# Altium footprint library MEGA.PcbLib: 237 footprints (part 3 of 15)
Each footprint in its own frame and in the unit in brackets; x right, y up, seen from the top. Pads: shape width x height; smd on the part's side, far side on the other; paste and mask are expansions set on the pad; w line width, h text height; cw(c..) or ccw(c..) is an arc to the next point about the centre after c.
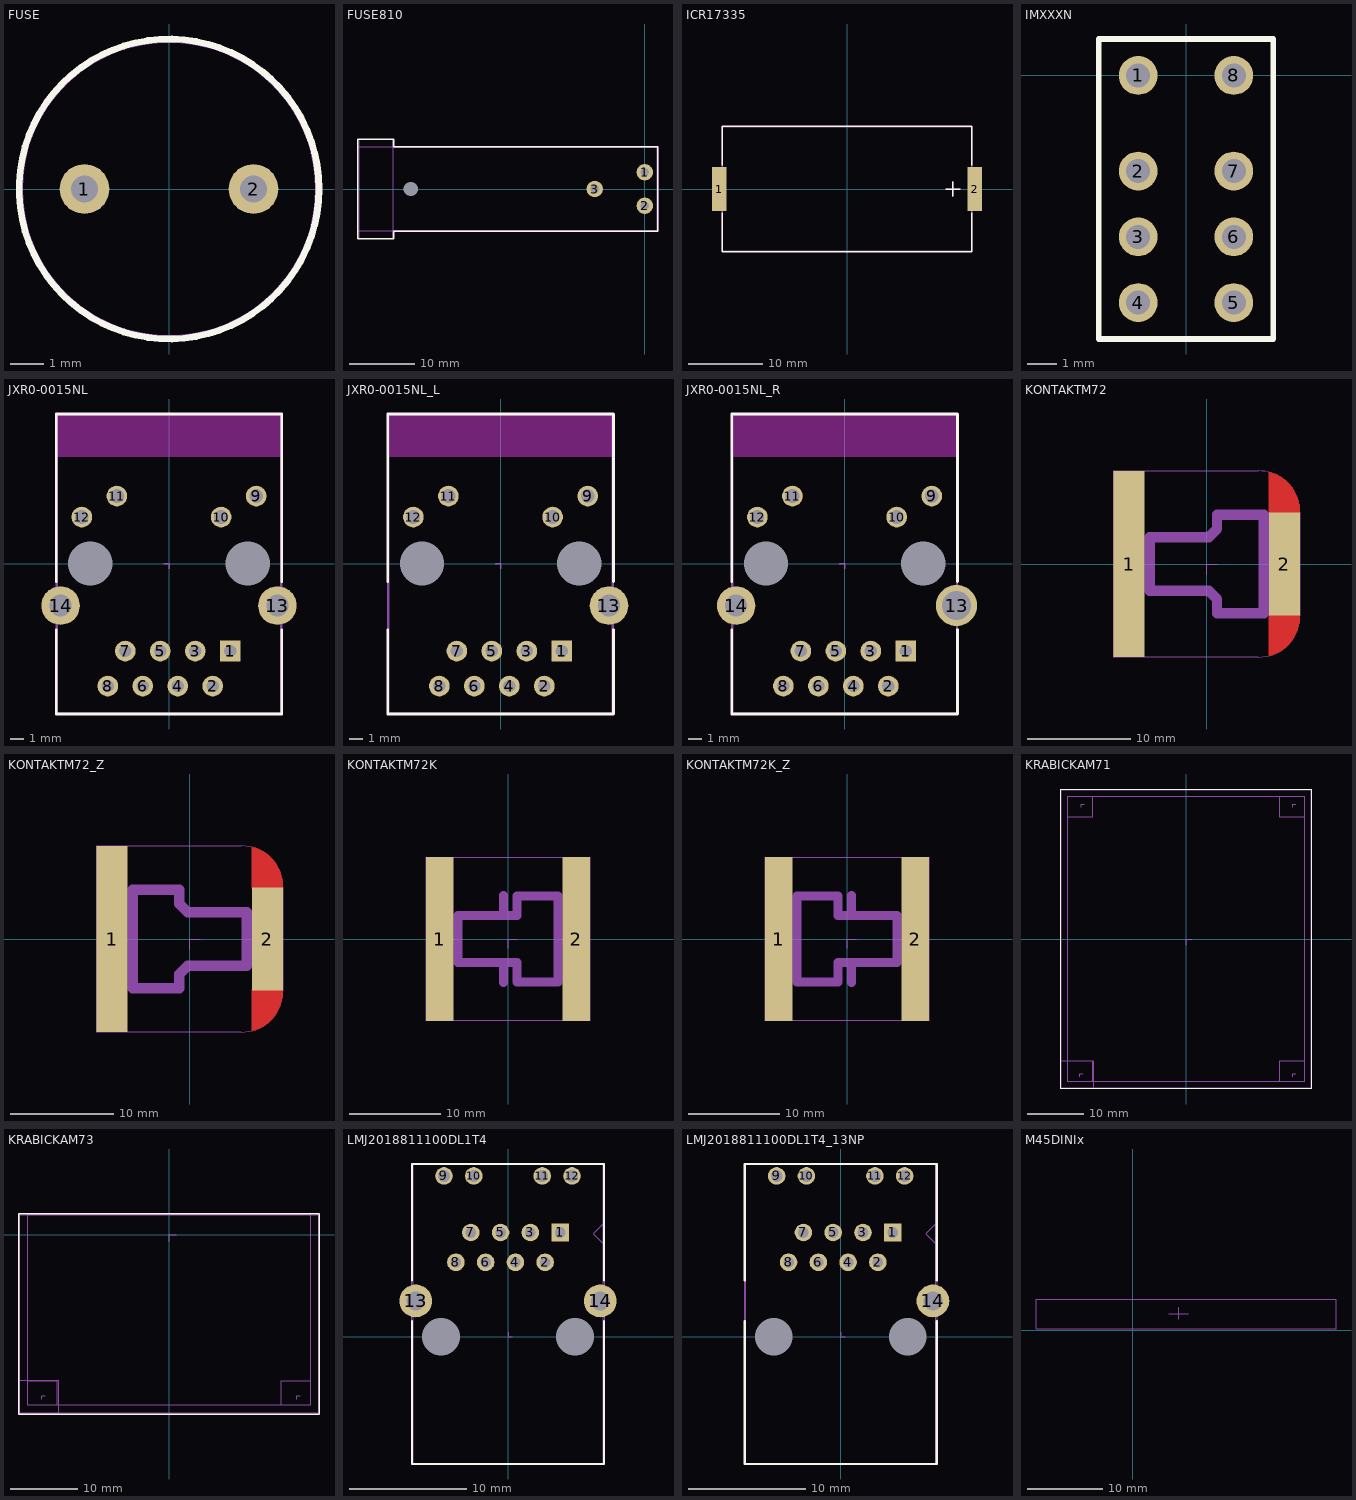
[diagram p2: the footprints below, top view; thin cyan lines are the x and y axes]

## FUSE [mm]
pads (2):
  round 1.5 hole 0.8 mask+0.1: 1(-2.54,0) 2(2.54,0)
Top Overlay:
  circle w0.2: c0,0 r4.508
Mechanical 15:
  circle w0.1: c0,0 r4.445
Multi-Layer:
  text "Value" at -1.235,-0.869 h0.75
Mechanical 20:
  circle w0.1: c0,0 r4.508

## FUSE810 [mm]
pads (4):
  round 2.5 hole 1.3 mask+0.05: 1(0,2.54) 2(0,-2.54) 3(-7.62,0)
  round 0 hole 2.2: HL1(-35.56,0)
Top Overlay:
  lines w0.2: -43.6,-7.6 -38.2,-7.6 -38.2,-6.4 2,-6.4 2,6.4 -38.2,6.4 -38.2,7.6 -43.6,7.6 -43.6,-7.6
Mechanical 15:
  lines w0.01: -38.3,-6.3 -38.3,6.3 ; -38.3,-6.3 1.9,-6.3 1.9,6.3 -38.3,6.3 ; -38.3,-6.3 -38.3,-7.5 -43.5,-7.5 -43.5,7.5 -38.3,7.5 -38.3,6.3
Multi-Layer:
  text "Value" at -21.735,-2.28 h0.75
Mechanical 20:
  lines w0.1: -43.6,-6.4 2,-6.4 2,6.4 -43.6,6.4 -43.6,-6.4

## ICR17335 [mm]
pads (2):
  rect 2x6 smd mask+0.05: 1(-17.272,0) 2(17.272,0)
Top Overlay:
  lines w0.2: -16.828,-3.238 -16.828,-8.509 16.828,-8.509 16.828,-3.238 ; -16.828,3.238 -16.828,8.509 16.828,8.509 16.828,3.238 ; 13.318,0 15.318,0 ; 14.318,-1 14.318,1
Mechanical 15:
  lines w0.1: 13.318,0 15.318,0 ; 14.318,-1 14.318,1 ; -16.764,-8.445 16.764,-8.445 16.764,8.445 -16.764,8.445 -16.764,-8.445
Multi-Layer:
  text "Value" at -1.235,-1.822 h0.75
Mechanical 20:
  lines w0.1: -16.828,-8.509 16.828,-8.509 16.828,8.509 -16.828,8.509 -16.828,-8.509

## IMXXXN [mm]
pads (8):
  round 1.3 hole 0.8 mask+0.1: 1(-1.6,0) 2(-1.6,-3.2) 3(-1.6,-5.4) 4(-1.6,-7.6) 5(1.6,-7.6) 6(1.6,-5.4) 7(1.6,-3.2) 8(1.6,0)
Top Overlay:
  lines w0.2: -2.92,-8.82 2.92,-8.82 2.92,1.22 -2.92,1.22 -2.92,-8.82
Mechanical 15:
  lines w0.1: -2.9,-8.8 2.9,-8.8 2.9,1.2 -2.9,1.2 -2.9,-8.8

## JXR0-0015NL [mm]
height 17.27
pads (16):
  rect 1.5x1.5 hole 0.9 mask+0.1: 1(4.445,-6.35)
  round 1.5 hole 0.9 mask+0.1: 2(3.175,-8.89) 3(1.905,-6.35) 4(0.635,-8.89) 5(-0.635,-6.35) 6(-1.905,-8.89) 7(-3.175,-6.35) 8(-4.445,-8.89)
  round 1.5 hole 1 mask+0.1: 9(6.331,4.902) 10(3.785,3.378) 11(-3.785,4.902) 12(-6.331,3.378)
  round 2.8 hole 1.6 mask+0.1: 13(7.874,-3.048) 14(-7.874,-3.048)
  round 0 hole 3.2 unplated: HL1(5.715,0) HL2(-5.715,0)
L1-Top Layer keep-out:
  region: 8.128,10.795 -8.128,10.795 -8.128,7.747 8.128,7.747
Top Overlay:
  lines w0.2: -8.191,-4.805 -8.191,-10.922 8.191,-10.922 8.191,-4.805 ; -8.191,-1.305 -8.191,10.858 8.191,10.858 8.191,-1.305
Mechanical 15:
  lines w0.1: -8.128,-10.858 -8.128,10.795 8.128,10.795 8.128,-10.858 -8.128,-10.858
Mechanical 19:
  lines w0.1: -0.381,0 0,0 0,-0.381
Mechanical 20:
  lines w0.1: -8.191,-10.922 8.191,-10.922 8.191,10.858 -8.191,10.858 -8.191,-10.922

## JXR0-0015NL_L [mm]
height 17.27
pads (15):
  rect 1.5x1.5 hole 0.9 mask+0.1: 1(4.445,-6.35)
  round 1.5 hole 0.9 mask+0.1: 2(3.175,-8.89) 3(1.905,-6.35) 4(0.635,-8.89) 5(-0.635,-6.35) 6(-1.905,-8.89) 7(-3.175,-6.35) 8(-4.445,-8.89)
  round 1.5 hole 1 mask+0.1: 9(6.331,4.902) 10(3.785,3.378) 11(-3.785,4.902) 12(-6.331,3.378)
  round 2.8 hole 1.6 mask+0.1: 13(7.874,-3.048)
  round 0 hole 3.2 unplated: HL1(5.715,0) HL2(-5.715,0)
L1-Top Layer keep-out:
  region: 8.128,10.795 -8.128,10.795 -8.128,7.747 8.128,7.747
Top Overlay:
  lines w0.2: -8.191,-4.805 -8.191,-10.922 8.191,-10.922 8.191,-4.805 ; -8.191,-1.305 -8.191,10.858 8.191,10.858 8.191,-1.305
Mechanical 15:
  lines w0.1: -8.128,-10.858 -8.128,10.795 8.128,10.795 8.128,-10.858 -8.128,-10.858
Mechanical 19:
  lines w0.1: -0.381,0 0,0 0,-0.381
Mechanical 20:
  lines w0.1: -8.191,-10.922 8.191,-10.922 8.191,10.858 -8.191,10.858 -8.191,-10.922

## JXR0-0015NL_R [mm]
height 17.27
pads (16):
  rect 1.5x1.5 hole 0.9 mask+0.1: 1(4.445,-6.35)
  round 1.5 hole 0.9 mask+0.1: 2(3.175,-8.89) 3(1.905,-6.35) 4(0.635,-8.89) 5(-0.635,-6.35) 6(-1.905,-8.89) 7(-3.175,-6.35) 8(-4.445,-8.89)
  round 1.5 hole 1 mask+0.1: 9(6.331,4.902) 10(3.785,3.378) 11(-3.785,4.902) 12(-6.331,3.378)
  round 3 hole 2.1 mask+0.05: 13(8.128,-3.048)
  round 2.8 hole 1.6 mask+0.1: 14(-7.874,-3.048)
  round 0 hole 3.2 unplated: HL1(5.715,0) HL2(-5.715,0)
L1-Top Layer keep-out:
  region: 8.128,10.795 -8.128,10.795 -8.128,7.747 8.128,7.747
Top Overlay:
  lines w0.2: -8.191,-4.805 -8.191,-10.922 8.191,-10.922 8.191,-4.805 ; -8.191,-1.305 -8.191,10.858 8.191,10.858 8.191,-1.305
Mechanical 15:
  lines w0.1: -8.128,-10.858 -8.128,10.795 8.128,10.795 8.128,-10.858 -8.128,-10.858
Mechanical 19:
  lines w0.1: -0.381,0 0,0 0,-0.381
Mechanical 20:
  lines w0.1: -8.191,-10.922 8.191,-10.922 8.191,10.858 -8.191,10.858 -8.191,-10.922

## KONTAKTM72 [mm]
pads (2):
  rect 3x18 smd mask+0.05: 1(-7.5,0)
  rect 3x10 smd mask+0.05: 2(7.5,0)
L1-Top Layer:
  region: 9,4.9 9,4.998 9.004,5.139 8.999,5.341 8.983,5.542 8.956,5.743 8.92,5.941 8.872,6.138 8.815,6.331 8.748,6.522 8.67,6.708 8.583,6.891 8.487,7.068 8.381,7.24 8.267,7.407 8.144,7.567 8.013,7.721 7.874,7.867 7.727,8.006 7.574,8.137 7.414,8.26 7.247,8.375 7.075,8.48 6.897,8.577 6.715,8.664 6.529,8.741 6.338,8.808 6.144,8.866 6,8.9 6,4.9
  region: 9,-4.9 9,-4.998 9.004,-5.139 8.999,-5.341 8.983,-5.542 8.956,-5.743 8.92,-5.941 8.872,-6.138 8.815,-6.331 8.748,-6.522 8.67,-6.708 8.583,-6.891 8.487,-7.068 8.381,-7.24 8.267,-7.407 8.144,-7.567 8.013,-7.721 7.874,-7.867 7.727,-8.006 7.574,-8.137 7.414,-8.26 7.247,-8.375 7.075,-8.48 6.897,-8.577 6.715,-8.664 6.529,-8.741 6.338,-8.808 6.144,-8.866 6,-8.9 6,-4.9
Top Solder:
  region: 5.95,-4.95 9.05,-4.95 9.051,-5.048 9.051,-5.055 9.046,-5.264 9.029,-5.473 9.002,-5.68 8.964,-5.886 8.915,-6.09 8.856,-6.29 8.786,-6.488 8.706,-6.681 8.616,-6.87 8.516,-7.054 8.406,-7.233 8.288,-7.405 8.16,-7.571 8.024,-7.73 7.88,-7.882 7.728,-8.026 7.569,-8.162 7.403,-8.29 7.231,-8.408 7.052,-8.518 6.868,-8.618 6.679,-8.708 6.486,-8.788 6.289,-8.858 6.088,-8.917 5.952,-8.95 5.95,-8.95
  region: 5.95,4.95 9.05,4.95 9.051,5.048 9.051,5.055 9.046,5.264 9.029,5.473 9.002,5.68 8.964,5.886 8.915,6.09 8.856,6.291 8.786,6.488 8.706,6.681 8.616,6.87 8.516,7.054 8.406,7.233 8.288,7.405 8.16,7.571 8.024,7.73 7.88,7.882 7.728,8.026 7.569,8.162 7.403,8.29 7.231,8.408 7.052,8.518 6.868,8.618 6.679,8.708 6.486,8.788 6.289,8.858 6.088,8.917 5.952,8.95 5.95,8.95
Mechanical 15:
  lines w0.1: 4.998,9 cw(c5.005,5.005) 9,5.005 ; 5,9 -9,9 -9,-9 5,-9 ccw(c5,-5) 9,-5 9,5
Mechanical 16:
  lines w1: -5.5,-2.6 -5.5,2.6 0.2,2.6 1,3.4 1,4.75 5.5,4.75 5.5,-4.75 1,-4.75 1,-3.4 0.2,-2.6 -5.5,-2.6
Mechanical 19:
  lines w0.1: 0,-1 0,0 1,0

## KONTAKTM72_Z [mm]
pads (2):
  rect 3x18 smd mask+0.1: 1(-7.5,0)
  rect 3x10 smd mask+0.05: 2(7.5,0)
L1-Top Layer:
  region: 8.999,4.91 8.999,5.008 9.003,5.149 8.997,5.351 8.981,5.552 8.955,5.753 8.918,5.951 8.871,6.148 8.814,6.341 8.746,6.532 8.669,6.718 8.582,6.901 8.486,7.078 8.38,7.25 8.266,7.417 8.143,7.577 8.012,7.731 7.873,7.877 7.726,8.016 7.573,8.147 7.412,8.27 7.246,8.385 7.074,8.49 6.896,8.587 6.714,8.674 6.527,8.751 6.337,8.818 6.143,8.876 5.999,8.91 5.999,4.91
  region: 8.999,-4.9 8.999,-4.998 9.003,-5.139 8.997,-5.341 8.981,-5.542 8.955,-5.743 8.918,-5.941 8.871,-6.138 8.814,-6.331 8.746,-6.522 8.669,-6.708 8.582,-6.891 8.486,-7.068 8.38,-7.24 8.266,-7.407 8.143,-7.567 8.012,-7.721 7.873,-7.867 7.726,-8.006 7.573,-8.137 7.412,-8.26 7.246,-8.375 7.074,-8.48 6.896,-8.577 6.714,-8.664 6.527,-8.741 6.337,-8.808 6.143,-8.866 5.999,-8.9 5.999,-4.9
Top Solder:
  region: 5.95,-4.94 9.05,-4.94 9.051,-5.038 9.051,-5.045 9.046,-5.254 9.029,-5.463 9.002,-5.67 8.964,-5.876 8.915,-6.08 8.856,-6.28 8.786,-6.478 8.706,-6.671 8.616,-6.86 8.516,-7.044 8.406,-7.223 8.288,-7.395 8.16,-7.561 8.024,-7.72 7.88,-7.872 7.728,-8.016 7.569,-8.152 7.403,-8.28 7.231,-8.398 7.052,-8.508 6.868,-8.608 6.679,-8.698 6.486,-8.778 6.289,-8.848 6.088,-8.907 5.952,-8.94 5.95,-8.94
  region: 5.95,4.95 9.05,4.95 9.051,5.048 9.051,5.055 9.046,5.264 9.029,5.473 9.002,5.68 8.964,5.886 8.915,6.09 8.856,6.291 8.786,6.488 8.706,6.681 8.616,6.87 8.516,7.054 8.406,7.233 8.288,7.405 8.16,7.571 8.024,7.73 7.88,7.882 7.728,8.026 7.569,8.162 7.403,8.29 7.231,8.408 7.052,8.518 6.868,8.618 6.679,8.708 6.486,8.788 6.289,8.858 6.088,8.917 5.952,8.95 5.95,8.95
Mechanical 15:
  lines w0.1: -9,-9 -9,9 5,9 cw(c5,5) 9,5 9,-5 cw(c5,-5) 5,-9 -9,-9
Mechanical 16:
  lines w1: -5.5,-4.75 -5.5,4.75 -1,4.75 -1,3.4 -0.2,2.6 5.5,2.6 5.5,-2.6 -0.2,-2.6 -1,-3.4 -1,-4.75 -5.5,-4.75
Multi-Layer:
  text "Value" at -3.935,-1.025 h0.75
Mechanical 19:
  lines w0.1: 0,-1 0,0 1,0

## KONTAKTM72K [mm]
pads (2):
  rect 3x18 smd mask+0.05: 1(-7.5,0) 2(7.5,0)
Mechanical 15:
  lines w0.1: -9,-9 -9,9 9,9 9,-9 -9,-9
Mechanical 16:
  lines w1: -0.5,-4.8 -0.5,-2.6 ; -0.5,2.6 -0.5,4.8 ; -5.5,-2.6 -5.5,2.6 1,2.6 1,4.75 5.5,4.75 5.5,-4.75 1,-4.75 1,-2.6 -5.5,-2.6
Multi-Layer:
  text "Value" at -3.935,-1.025 h0.75
Mechanical 19:
  lines w0.1: 0,-1 0,0 1,0

## KONTAKTM72K_Z [mm]
pads (2):
  rect 3x18 smd mask+0.1: 1(-7.5,0)
  rect 3x18 smd mask+0.05: 2(7.5,0)
Mechanical 15:
  lines w0.1: -9,-9 -9,9 9,9 9,-9 -9,-9
Mechanical 16:
  lines w1: 0.5,-4.8 0.5,-2.6 ; 0.5,2.6 0.5,4.8 ; -5.5,-4.75 -5.5,4.75 -1,4.75 -1,2.6 5.5,2.6 5.5,-2.6 -1,-2.6 -1,-4.75 -5.5,-4.75
Mechanical 19:
  lines w0.1: 0,-1 0,0 1,0

## KRABICKAM71 [mm]
Top Overlay:
  lines w0.2: -22.3,-26.6 22.2,-26.6 22.2,26.6 -22.3,26.6 -22.3,-26.6
Mechanical 15:
  lines w0.1: -21.1,-25.2 21,-25.2 ; -21.1,-25.2 -21.1,25.2 ; -21.1,-25.2 -16.6,-25.2 -16.6,-21.7 -21.1,-21.7 -21.1,-25.2 ; -21.1,25.2 21,25.2 ; -21.1,25.2 -16.6,25.2 -16.6,21.7 -21.1,21.7 -21.1,25.2 ; 21,-25.2 21,25.2 ; 21,-25.2 16.5,-25.2 16.5,-21.7 21,-21.7 21,-25.2 ; 21,25.2 21,21.7 16.5,21.7 16.5,25.2 21,25.2 ; -22.2,-26.5 22.1,-26.5 22.1,26.5 -22.2,26.5 -22.2,-26.5
Mechanical 19:
  lines w0.1: 0,-1 0,0 1,0
Mechanical 20:
  lines w0.1: -18.9,-24.4 -18.9,-23.9 -18.4,-23.9 ; -18.6,23.4 -18.6,23.9 -18.1,23.9 ; 18.9,-24.4 18.9,-23.9 19.4,-23.9 ; 18.9,23.4 18.9,23.9 19.4,23.9 ; -22.3,-26.6 -16.5,-26.6 -16.5,-21.6 -22.3,-21.6 -22.3,-26.6

## KRABICKAM73 [mm]
Top Overlay:
  lines w0.2: -22.3,-26.6 22.2,-26.6 22.2,3.1 -22.3,3.1 -22.3,-26.6
Mechanical 15:
  lines w0.1: -21.1,-25.2 21,-25.2 ; -21.1,-25.2 -21.1,3 21,3 21,-25.2 ; -21.1,-25.2 -16.6,-25.2 -16.6,-21.7 -21.1,-21.7 -21.1,-25.2 ; 21,-25.2 16.5,-25.2 16.5,-21.7 21,-21.7 21,-25.2 ; -22.2,-26.5 22.1,-26.5 22.1,3 -22.2,3 -22.2,-26.5
Mechanical 19:
  lines w0.1: 0,-1 0,0 1,0
Mechanical 20:
  lines w0.1: -18.9,-24.4 -18.9,-23.9 -18.4,-23.9 ; 18.9,-24.4 18.9,-23.9 19.4,-23.9 ; -22.3,-26.6 -16.5,-26.6 -16.5,-21.6 -22.3,-21.6 -22.3,-26.6

## LMJ2018811100DL1T4 [mm]
height 17.27
pads (16):
  rect 1.5x1.5 hole 0.9 mask+0.1: 1(4.445,8.89)
  round 1.5 hole 0.9 mask+0.1: 2(3.175,6.35) 3(1.905,8.89) 4(0.635,6.35) 5(-0.635,8.89) 6(-1.905,6.35) 7(-3.175,8.89) 8(-4.445,6.35)
  round 1.5 hole 1 mask+0.1: 9(-5.461,13.716) 10(-2.921,13.716) 11(2.921,13.716) 12(5.461,13.716)
  round 2.8 hole 1.6 mask+0.1: 13(-7.874,3.048) 14(7.874,3.048)
  round 0 hole 3.2 unplated: HL1(-5.715,0) HL2(5.715,0)
Top Overlay:
  lines w0.2: -8.191,1.305 -8.191,-10.858 8.191,-10.858 8.191,1.305 ; -8.191,4.805 -8.191,14.732 8.191,14.732 8.191,4.805
Mechanical 15:
  lines w0.1: 8.127,7.944 7.279,8.792 8.127,9.64 ; -8.128,-10.795 8.128,-10.795 8.128,14.668 -8.128,14.668 -8.128,-10.795
Mechanical 19:
  lines w0.1: 0,0.381 0,0 0.381,0
Mechanical 20:
  lines w0.1: -8.191,-10.858 8.191,-10.858 8.191,14.732 -8.191,14.732 -8.191,-10.858

## LMJ2018811100DL1T4_13NP [mm]
height 17.27
pads (15):
  rect 1.5x1.5 hole 0.9 mask+0.1: 1(4.445,8.89)
  round 1.5 hole 0.9 mask+0.1: 2(3.175,6.35) 3(1.905,8.89) 4(0.635,6.35) 5(-0.635,8.89) 6(-1.905,6.35) 7(-3.175,8.89) 8(-4.445,6.35)
  round 1.5 hole 1 mask+0.1: 9(-5.461,13.716) 10(-2.921,13.716) 11(2.921,13.716) 12(5.461,13.716)
  round 2.8 hole 1.6 mask+0.1: 14(7.874,3.048)
  round 0 hole 3.2 unplated: HL1(-5.715,0) HL2(5.715,0)
Top Overlay:
  lines w0.2: -8.191,1.305 -8.191,-10.858 8.191,-10.858 8.191,1.305 ; -8.191,4.805 -8.191,14.732 8.191,14.732 8.191,4.805
Mechanical 15:
  lines w0.1: 8.127,7.944 7.279,8.792 8.127,9.64 ; -8.128,-10.795 8.128,-10.795 8.128,14.668 -8.128,14.668 -8.128,-10.795
Mechanical 19:
  lines w0.1: 0,0.381 0,0 0.381,0
Mechanical 20:
  lines w0.1: -8.191,-10.858 8.191,-10.858 8.191,14.732 -8.191,14.732 -8.191,-10.858

## M45DINIx [mm]
height 15
Bottom Overlay:
  lines w0.15: 6.1,1.5 6.1,3.1 6.1,2.2 4.8,2.2 7.4,2.2 ; -12.9,0.2 27.1,0.2 27.1,4.2 -12.9,4.2 -12.9,0.2
3D body "M45DINI1.step": height -0.3, standoff -16.9, extent -12.9,0.2 27.1,4.201